# EAGLE library part PCB-100X80 (library dimrobotics)
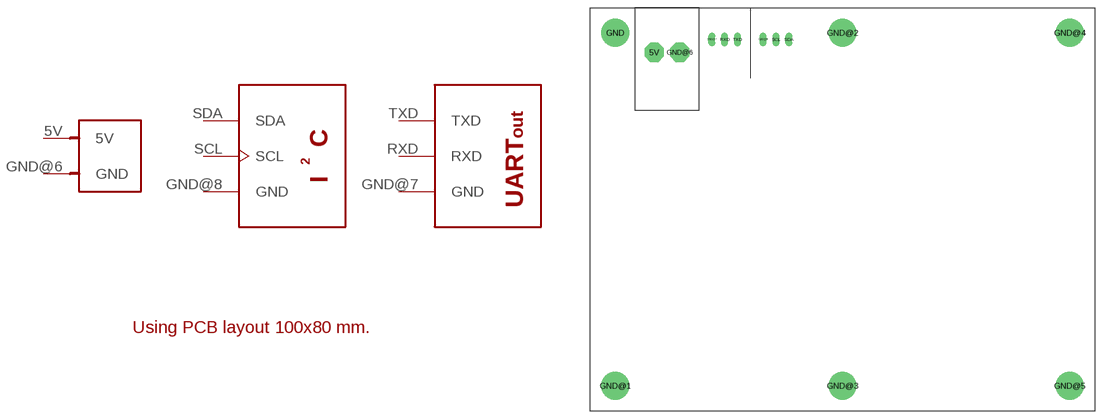
[diagram p3: symbol with the pads of PCB-100X80; footprint PCB-100X80]

Designator prefix -; gates G$1=PCB-100X80 G$2=I2C G$3=UART G$4=PWR_5V

## PCB-100X80  [PCB-100X80]
5V  G$4:5V  pwr
GND  G$1:GND  pwr
GND@1  G$1:GND  pwr
GND@2  G$1:GND  pwr
GND@3  G$1:GND  pwr
GND@4  G$1:GND  pwr
GND@5  G$1:GND  pwr
GND@6  G$4:GND  pwr
GND@7  G$3:GND  pwr
GND@8  G$2:GND  pwr
RXD  G$3:RXD  in
SCL  G$2:SCL
SDA  G$2:SDA
TXD  G$3:TXD  out

## Footprint PCB-100X80 (pad centres in mm)
drill 1.8 pad 3.81 octagon: 5V 12.7,71.12; GND@6 17.78,71.12
drill 3.2 pad 5.5: GND 5,75; GND@1 5,5; GND@2 50,75; GND@3 50,5; GND@4 95,75; GND@5 95,5
drill 0.9 long: GND@7 24.13,73.66; GND@8 34.29,73.66; RXD 26.67,73.66; SCL 36.83,73.66; SDA 39.37,73.66; TXD 29.21,73.66